# Altium integrated library Texas Instruments Interface RS-422.IntLib: 548 symbols (part 6 of 15)
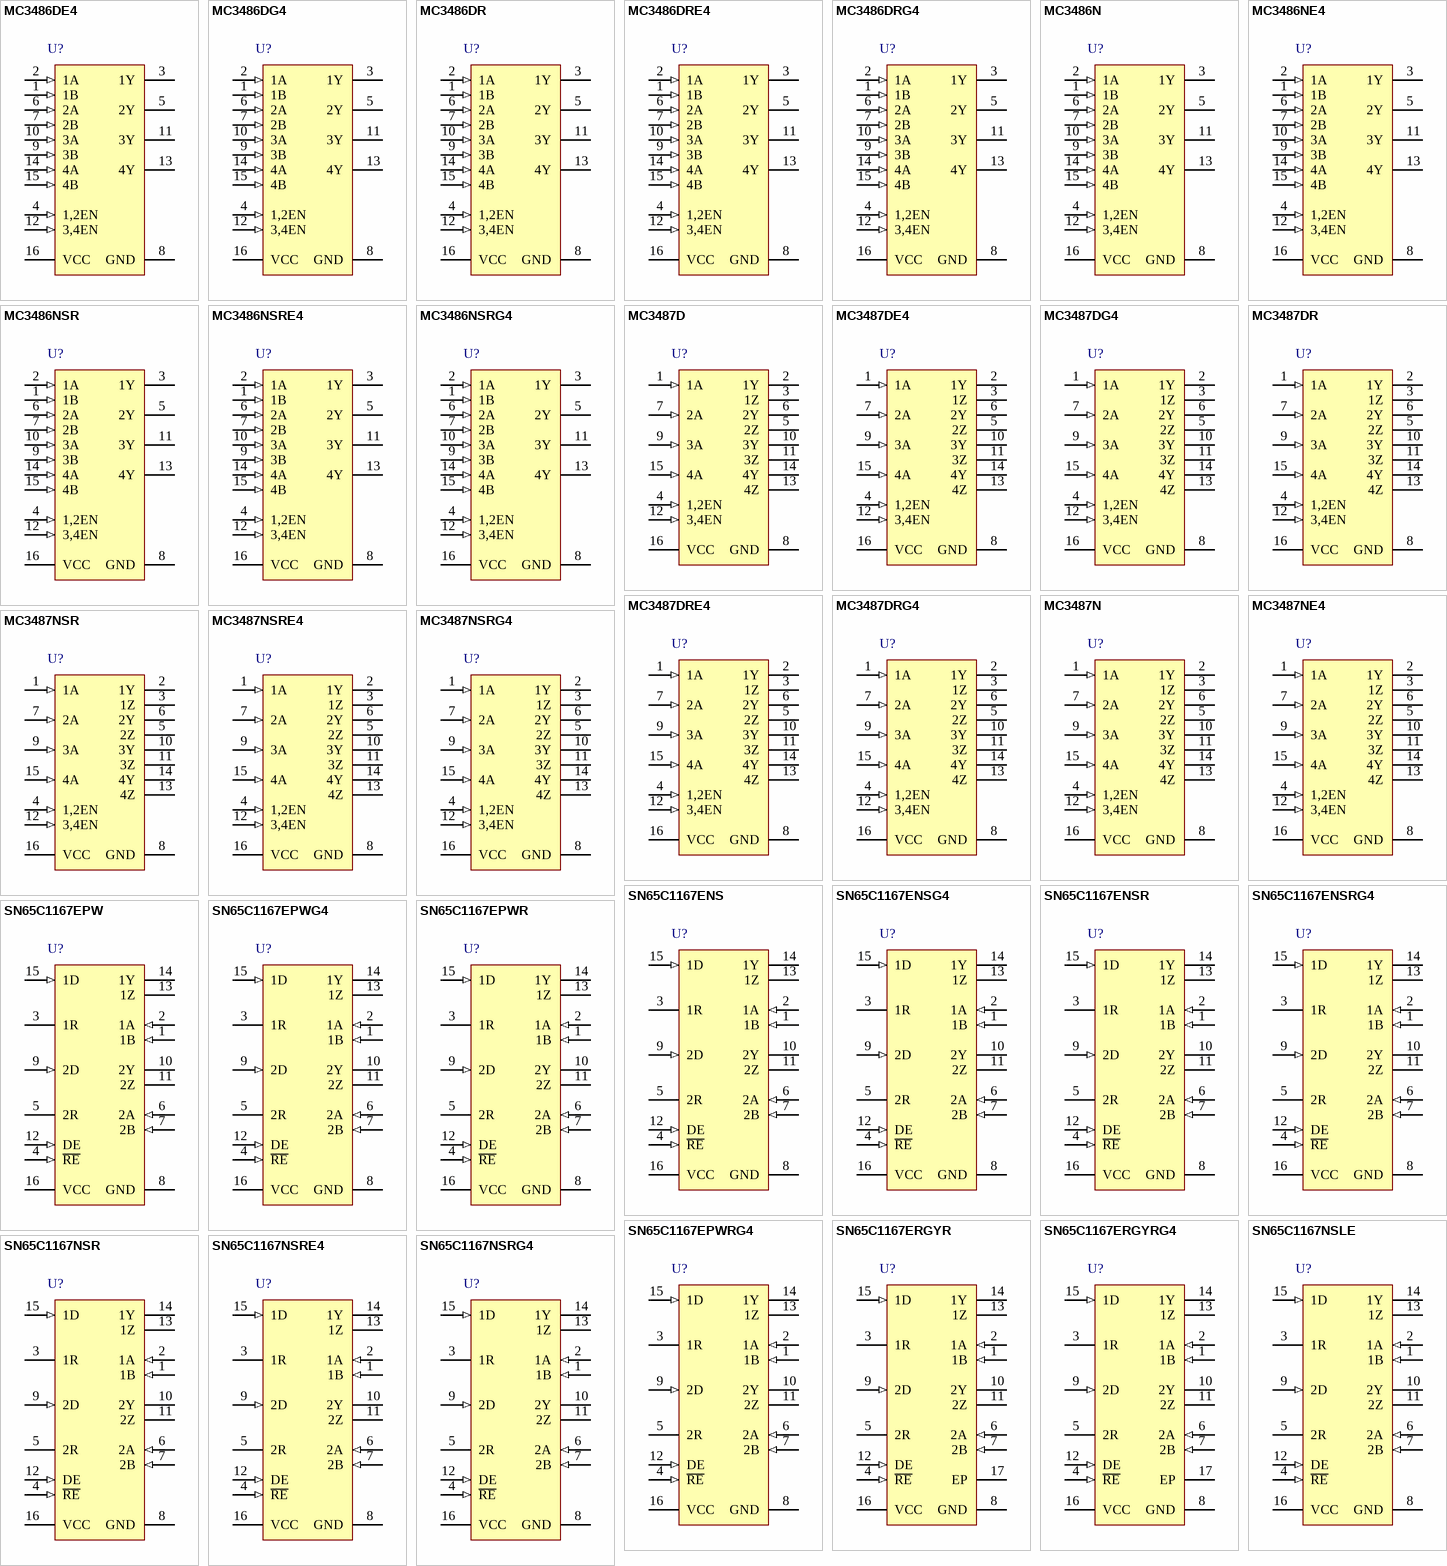
[diagram p20: symbols MC3486DE4 to SN65C1167NSRG4]

## MC3487DR
designator U?
Quadruple Differential Line Driver, 4 TX / 0 RX, 5V, 0 to 70 degC, 16-Pin SOIC (D), Green (RoHS & no Sb/Br); PartNumber: MC3487DR; Manufacturer: Texas Instruments; SubFamily: RS-422; Drivers Per Package: 4; ICC(Max)(mA): 85; Supply Voltage(s)(V): 5; ESD(kV): 2; Rating: Catalog; DatasheetVersion: SLLS098C; PackageVersion: revM, Jun-2011; PackageReference: D16; PackageDescription: 16-Pin Plastic Small Outline Integrated Circuit, 9.9 x 3.9 mm, Pitch 1.27 mm Pitch; Mounting Technology: Surface Mount; Eco-Plan: Green (RoHS & no Sb/Br); # of TX/RX: 4 TX / 0 RX; Footprint: MC3487; Code_JEDEC: MS-012AC; ComponentLink1Description: Datasheet; ComponentLink1URL: http://www.ti.com/general/docs/lit/getliterature.tsp?genericPartNumber=MC3487&fileType=pdf; ComponentLink2Description: Package Specification; ComponentLink2URL: http://www.ti.com/litv/pdf/mpds178g
footprint D16_N (SOIC, 16-Leads, Body 9.9x3.9mm, Pitch 1.27mm, IPC Medium Density)
footprint D16_L (SOIC, 16-Leads, Body 9.9x3.9mm, Pitch 1.27mm, IPC High Density)
footprint D16_M (SOIC, 16-Leads, Body 9.9x3.9mm, Pitch 1.27mm, IPC Low Density)
pins: 1 1A (in), 2 1Y (hiz), 3 1Z (hiz), 4 1,2EN (in), 5 2Z (hiz), 6 2Y (hiz), 7 2A (in), 8 GND (power), 9 3A (in), 10 3Y (hiz), 11 3Z (hiz), 12 3,4EN (in), 13 4Z (hiz), 14 4Y (hiz), 15 4A (in), 16 VCC (power)

## MC3487DRE4
designator U?
Quadruple Differential Line Driver, 4 TX / 0 RX, 5V, 0 to 70 degC, 16-Pin SOIC (D), Green (RoHS & no Sb/Br); PartNumber: MC3487DRE4; Manufacturer: Texas Instruments; SubFamily: RS-422; Drivers Per Package: 4; ICC(Max)(mA): 85; Supply Voltage(s)(V): 5; ESD(kV): 2; Rating: Catalog; DatasheetVersion: SLLS098C; PackageVersion: revM, Jun-2011; PackageReference: D16; PackageDescription: 16-Pin Plastic Small Outline Integrated Circuit, 9.9 x 3.9 mm, Pitch 1.27 mm Pitch; Mounting Technology: Surface Mount; Eco-Plan: Green (RoHS & no Sb/Br); # of TX/RX: 4 TX / 0 RX; Footprint: MC3487; Code_JEDEC: MS-012AC; ComponentLink1Description: Datasheet; ComponentLink1URL: http://www.ti.com/general/docs/lit/getliterature.tsp?genericPartNumber=MC3487&fileType=pdf; ComponentLink2Description: Package Specification; ComponentLink2URL: http://www.ti.com/litv/pdf/mpds178g
footprint D16_N (SOIC, 16-Leads, Body 9.9x3.9mm, Pitch 1.27mm, IPC Medium Density)
footprint D16_L (SOIC, 16-Leads, Body 9.9x3.9mm, Pitch 1.27mm, IPC High Density)
footprint D16_M (SOIC, 16-Leads, Body 9.9x3.9mm, Pitch 1.27mm, IPC Low Density)
pins: 1 1A (in), 2 1Y (hiz), 3 1Z (hiz), 4 1,2EN (in), 5 2Z (hiz), 6 2Y (hiz), 7 2A (in), 8 GND (power), 9 3A (in), 10 3Y (hiz), 11 3Z (hiz), 12 3,4EN (in), 13 4Z (hiz), 14 4Y (hiz), 15 4A (in), 16 VCC (power)

## MC3487DRG4
designator U?
Quadruple Differential Line Driver, 4 TX / 0 RX, 5V, 0 to 70 degC, 16-Pin SOIC (D), Green (RoHS & no Sb/Br); PartNumber: MC3487DRG4; Manufacturer: Texas Instruments; SubFamily: RS-422; Drivers Per Package: 4; ICC(Max)(mA): 85; Supply Voltage(s)(V): 5; ESD(kV): 2; Rating: Catalog; DatasheetVersion: SLLS098C; PackageVersion: revM, Jun-2011; PackageReference: D16; PackageDescription: 16-Pin Plastic Small Outline Integrated Circuit, 9.9 x 3.9 mm, Pitch 1.27 mm Pitch; Mounting Technology: Surface Mount; Eco-Plan: Green (RoHS & no Sb/Br); # of TX/RX: 4 TX / 0 RX; Footprint: MC3487; Code_JEDEC: MS-012AC; ComponentLink1Description: Datasheet; ComponentLink1URL: http://www.ti.com/general/docs/lit/getliterature.tsp?genericPartNumber=MC3487&fileType=pdf; ComponentLink2Description: Package Specification; ComponentLink2URL: http://www.ti.com/litv/pdf/mpds178g
footprint D16_N (SOIC, 16-Leads, Body 9.9x3.9mm, Pitch 1.27mm, IPC Medium Density)
footprint D16_L (SOIC, 16-Leads, Body 9.9x3.9mm, Pitch 1.27mm, IPC High Density)
footprint D16_M (SOIC, 16-Leads, Body 9.9x3.9mm, Pitch 1.27mm, IPC Low Density)
pins: 1 1A (in), 2 1Y (hiz), 3 1Z (hiz), 4 1,2EN (in), 5 2Z (hiz), 6 2Y (hiz), 7 2A (in), 8 GND (power), 9 3A (in), 10 3Y (hiz), 11 3Z (hiz), 12 3,4EN (in), 13 4Z (hiz), 14 4Y (hiz), 15 4A (in), 16 VCC (power)

## MC3487N
designator U?
Quadruple Differential Line Driver, 4 TX / 0 RX, 5V, 0 to 70 degC, 16-Pin PDIP (N), Green (RoHS & no Sb/Br); PartNumber: MC3487N; Manufacturer: Texas Instruments; SubFamily: RS-422; Drivers Per Package: 4; ICC(Max)(mA): 85; Supply Voltage(s)(V): 5; ESD(kV): 2; Rating: Catalog; DatasheetVersion: SLLS098C; PackageVersion: revE, Dec-2002; PackageReference: N16; PackageDescription: 16-Pin Plastic Dual-In-Line Package, Row Spacing 7.62 mm, Pitch 2.54 mm; Mounting Technology: Through-hole; Eco-Plan: Green (RoHS & no Sb/Br); # of TX/RX: 4 TX / 0 RX; Footprint: MC3487; Code_JEDEC: MS-001*; ComponentLink1Description: Datasheet; ComponentLink1URL: http://www.ti.com/general/docs/lit/getliterature.tsp?genericPartNumber=MC3487&fileType=pdf; ComponentLink2Description: Package Specification; ComponentLink2URL: http://www.ti.com/lit/ml/mpdi002c/mpdi002c.pdf
footprint N16 (DIP, 16-Leads, Row Spacing 7.62mm, Pitch 2.54mm, Body 19.3x6.4mm)
pins: 1 1A (in), 2 1Y (hiz), 3 1Z (hiz), 4 1,2EN (in), 5 2Z (hiz), 6 2Y (hiz), 7 2A (in), 8 GND (power), 9 3A (in), 10 3Y (hiz), 11 3Z (hiz), 12 3,4EN (in), 13 4Z (hiz), 14 4Y (hiz), 15 4A (in), 16 VCC (power)

## MC3487NE4
designator U?
Quadruple Differential Line Driver, 4 TX / 0 RX, 5V, 0 to 70 degC, 16-Pin PDIP (N), Green (RoHS & no Sb/Br); PartNumber: MC3487NE4; Manufacturer: Texas Instruments; SubFamily: RS-422; Drivers Per Package: 4; ICC(Max)(mA): 85; Supply Voltage(s)(V): 5; ESD(kV): 2; Rating: Catalog; DatasheetVersion: SLLS098C; PackageVersion: revE, Dec-2002; PackageReference: N16; PackageDescription: 16-Pin Plastic Dual-In-Line Package, Row Spacing 7.62 mm, Pitch 2.54 mm; Mounting Technology: Through-hole; Eco-Plan: Green (RoHS & no Sb/Br); # of TX/RX: 4 TX / 0 RX; Footprint: MC3487; Code_JEDEC: MS-001*; ComponentLink1Description: Datasheet; ComponentLink1URL: http://www.ti.com/general/docs/lit/getliterature.tsp?genericPartNumber=MC3487&fileType=pdf; ComponentLink2Description: Package Specification; ComponentLink2URL: http://www.ti.com/lit/ml/mpdi002c/mpdi002c.pdf
footprint N16 (DIP, 16-Leads, Row Spacing 7.62mm, Pitch 2.54mm, Body 19.3x6.4mm)
pins: 1 1A (in), 2 1Y (hiz), 3 1Z (hiz), 4 1,2EN (in), 5 2Z (hiz), 6 2Y (hiz), 7 2A (in), 8 GND (power), 9 3A (in), 10 3Y (hiz), 11 3Z (hiz), 12 3,4EN (in), 13 4Z (hiz), 14 4Y (hiz), 15 4A (in), 16 VCC (power)

## MC3487NSR
designator U?
Quadruple Differential Line Driver, 4 TX / 0 RX, 5V, 0 to 70 degC, 16-Pin SO (NS), Green (RoHS & no Sb/Br); PartNumber: MC3487NSR; Manufacturer: Texas Instruments; SubFamily: RS-422; Drivers Per Package: 4; ICC(Max)(mA): 85; Supply Voltage(s)(V): 5; ESD(kV): 2; Rating: Catalog; DatasheetVersion: SLLS098C; PackageVersion: revC, Mar-2003; PackageReference: NS16; PackageDescription: 16-Pin Plastic Small Outline Package, 10.2 x 5.3 mm, Pitch 1.27 mm Pitch; Mounting Technology: Surface Mount; Eco-Plan: Green (RoHS & no Sb/Br); # of TX/RX: 4 TX / 0 RX; Footprint: MC3487; ComponentLink1Description: Datasheet; ComponentLink1URL: http://www.ti.com/general/docs/lit/getliterature.tsp?genericPartNumber=MC3487&fileType=pdf; ComponentLink2Description: Package Specification; ComponentLink2URL: http://www.ti.com/litv/pdf/msop002a
footprint NS16_N (SOP, 16-Leads, Body 10.2x5.3mm, Pitch 1.27mm, IPC Medium Density)
footprint NS16_L (SOP, 16-Leads, Body 10.2x5.3mm, Pitch 1.27mm, IPC High Density)
footprint NS16_M (SOP, 16-Leads, Body 10.2x5.3mm, Pitch 1.27mm, IPC Low Density)
pins: 1 1A (in), 2 1Y (hiz), 3 1Z (hiz), 4 1,2EN (in), 5 2Z (hiz), 6 2Y (hiz), 7 2A (in), 8 GND (power), 9 3A (in), 10 3Y (hiz), 11 3Z (hiz), 12 3,4EN (in), 13 4Z (hiz), 14 4Y (hiz), 15 4A (in), 16 VCC (power)

## MC3487NSRE4
designator U?
Quadruple Differential Line Driver, 4 TX / 0 RX, 5V, 0 to 70 degC, 16-Pin SO (NS), Green (RoHS & no Sb/Br); PartNumber: MC3487NSRE4; Manufacturer: Texas Instruments; SubFamily: RS-422; Drivers Per Package: 4; ICC(Max)(mA): 85; Supply Voltage(s)(V): 5; ESD(kV): 2; Rating: Catalog; DatasheetVersion: SLLS098C; PackageVersion: revC, Mar-2003; PackageReference: NS16; PackageDescription: 16-Pin Plastic Small Outline Package, 10.2 x 5.3 mm, Pitch 1.27 mm Pitch; Mounting Technology: Surface Mount; Eco-Plan: Green (RoHS & no Sb/Br); # of TX/RX: 4 TX / 0 RX; Footprint: MC3487; ComponentLink1Description: Datasheet; ComponentLink1URL: http://www.ti.com/general/docs/lit/getliterature.tsp?genericPartNumber=MC3487&fileType=pdf; ComponentLink2Description: Package Specification; ComponentLink2URL: http://www.ti.com/litv/pdf/msop002a
footprint NS16_N (SOP, 16-Leads, Body 10.2x5.3mm, Pitch 1.27mm, IPC Medium Density)
footprint NS16_L (SOP, 16-Leads, Body 10.2x5.3mm, Pitch 1.27mm, IPC High Density)
footprint NS16_M (SOP, 16-Leads, Body 10.2x5.3mm, Pitch 1.27mm, IPC Low Density)
pins: 1 1A (in), 2 1Y (hiz), 3 1Z (hiz), 4 1,2EN (in), 5 2Z (hiz), 6 2Y (hiz), 7 2A (in), 8 GND (power), 9 3A (in), 10 3Y (hiz), 11 3Z (hiz), 12 3,4EN (in), 13 4Z (hiz), 14 4Y (hiz), 15 4A (in), 16 VCC (power)

## MC3487NSRG4
designator U?
Quadruple Differential Line Driver, 4 TX / 0 RX, 5V, 0 to 70 degC, 16-Pin SO (NS), Green (RoHS & no Sb/Br); PartNumber: MC3487NSRG4; Manufacturer: Texas Instruments; SubFamily: RS-422; Drivers Per Package: 4; ICC(Max)(mA): 85; Supply Voltage(s)(V): 5; ESD(kV): 2; Rating: Catalog; DatasheetVersion: SLLS098C; PackageVersion: revC, Mar-2003; PackageReference: NS16; PackageDescription: 16-Pin Plastic Small Outline Package, 10.2 x 5.3 mm, Pitch 1.27 mm Pitch; Mounting Technology: Surface Mount; Eco-Plan: Green (RoHS & no Sb/Br); # of TX/RX: 4 TX / 0 RX; Footprint: MC3487; ComponentLink1Description: Datasheet; ComponentLink1URL: http://www.ti.com/general/docs/lit/getliterature.tsp?genericPartNumber=MC3487&fileType=pdf; ComponentLink2Description: Package Specification; ComponentLink2URL: http://www.ti.com/litv/pdf/msop002a
footprint NS16_N (SOP, 16-Leads, Body 10.2x5.3mm, Pitch 1.27mm, IPC Medium Density)
footprint NS16_L (SOP, 16-Leads, Body 10.2x5.3mm, Pitch 1.27mm, IPC High Density)
footprint NS16_M (SOP, 16-Leads, Body 10.2x5.3mm, Pitch 1.27mm, IPC Low Density)
pins: 1 1A (in), 2 1Y (hiz), 3 1Z (hiz), 4 1,2EN (in), 5 2Z (hiz), 6 2Y (hiz), 7 2A (in), 8 GND (power), 9 3A (in), 10 3Y (hiz), 11 3Z (hiz), 12 3,4EN (in), 13 4Z (hiz), 14 4Y (hiz), 15 4A (in), 16 VCC (power)

## SN65C1167ENS
designator U?
Dual Differential Driver and Receiver with +/-15-kV IEC ESD Protection, 2 TX / 2 RX, 5V, -40 to 85 degC, 16-Pin SO (NS), Green (RoHS & no Sb/Br); PartNumber: SN65C1167ENS; Manufacturer: Texas Instruments; SubFamily: RS-422; Drivers Per Package: 2; ICC(Max)(mA): 9; Supply Voltage(s)(V): 5; ESD(kV): 15; Rating: Catalog; DatasheetVersion: SLLS740A; PackageVersion: revC, Mar-2003; PackageReference: NS16; PackageDescription: 16-Pin Plastic Small Outline Package, 10.2 x 5.3 mm, Pitch 1.27 mm Pitch; Mounting Technology: Surface Mount; Eco-Plan: Green (RoHS & no Sb/Br); Receivers Per Package: 2; # of TX/RX: 2 TX / 2 RX; Footprint: MC34050; ComponentLink1Description: Datasheet; ComponentLink1URL: http://www.ti.com/general/docs/lit/getliterature.tsp?genericPartNumber=SN65C1167E&fileType=pdf; ComponentLink2Description: Package Specification; ComponentLink2URL: http://www.ti.com/litv/pdf/msop002a
footprint NS16_N (SOP, 16-Leads, Body 10.2x5.3mm, Pitch 1.27mm, IPC Medium Density)
footprint NS16_L (SOP, 16-Leads, Body 10.2x5.3mm, Pitch 1.27mm, IPC High Density)
footprint NS16_M (SOP, 16-Leads, Body 10.2x5.3mm, Pitch 1.27mm, IPC Low Density)
pins: 1 1B (in), 2 1A (in), 3 1R (hiz), 4 ~{RE} (in), 5 2R (hiz), 6 2A (in), 7 2B (in), 8 GND (power), 9 2D (in), 10 2Y (hiz), 11 2Z (hiz), 12 DE (in), 13 1Z (hiz), 14 1Y (hiz), 15 1D (in), 16 VCC (power)

## SN65C1167ENSG4
designator U?
Dual Differential Driver and Receiver with +/-15-kV IEC ESD Protection, 2 TX / 2 RX, 5V, -40 to 85 degC, 16-Pin SO (NS), Green (RoHS & no Sb/Br); PartNumber: SN65C1167ENSG4; Manufacturer: Texas Instruments; SubFamily: RS-422; Drivers Per Package: 2; ICC(Max)(mA): 9; Supply Voltage(s)(V): 5; ESD(kV): 15; Rating: Catalog; DatasheetVersion: SLLS740A; PackageVersion: revC, Mar-2003; PackageReference: NS16; PackageDescription: 16-Pin Plastic Small Outline Package, 10.2 x 5.3 mm, Pitch 1.27 mm Pitch; Mounting Technology: Surface Mount; Eco-Plan: Green (RoHS & no Sb/Br); Receivers Per Package: 2; # of TX/RX: 2 TX / 2 RX; Footprint: MC34050; ComponentLink1Description: Datasheet; ComponentLink1URL: http://www.ti.com/general/docs/lit/getliterature.tsp?genericPartNumber=SN65C1167E&fileType=pdf; ComponentLink2Description: Package Specification; ComponentLink2URL: http://www.ti.com/litv/pdf/msop002a
footprint NS16_N (SOP, 16-Leads, Body 10.2x5.3mm, Pitch 1.27mm, IPC Medium Density)
footprint NS16_L (SOP, 16-Leads, Body 10.2x5.3mm, Pitch 1.27mm, IPC High Density)
footprint NS16_M (SOP, 16-Leads, Body 10.2x5.3mm, Pitch 1.27mm, IPC Low Density)
pins: 1 1B (in), 2 1A (in), 3 1R (hiz), 4 ~{RE} (in), 5 2R (hiz), 6 2A (in), 7 2B (in), 8 GND (power), 9 2D (in), 10 2Y (hiz), 11 2Z (hiz), 12 DE (in), 13 1Z (hiz), 14 1Y (hiz), 15 1D (in), 16 VCC (power)

## SN65C1167ENSR
designator U?
Dual Differential Driver and Receiver with +/-15-kV IEC ESD Protection, 2 TX / 2 RX, 5V, -40 to 85 degC, 16-Pin SO (NS), Green (RoHS & no Sb/Br); PartNumber: SN65C1167ENSR; Manufacturer: Texas Instruments; SubFamily: RS-422; Drivers Per Package: 2; ICC(Max)(mA): 9; Supply Voltage(s)(V): 5; ESD(kV): 15; Rating: Catalog; DatasheetVersion: SLLS740A; PackageVersion: revC, Mar-2003; PackageReference: NS16; PackageDescription: 16-Pin Plastic Small Outline Package, 10.2 x 5.3 mm, Pitch 1.27 mm Pitch; Mounting Technology: Surface Mount; Eco-Plan: Green (RoHS & no Sb/Br); Receivers Per Package: 2; # of TX/RX: 2 TX / 2 RX; Footprint: MC34050; ComponentLink1Description: Datasheet; ComponentLink1URL: http://www.ti.com/general/docs/lit/getliterature.tsp?genericPartNumber=SN65C1167E&fileType=pdf; ComponentLink2Description: Package Specification; ComponentLink2URL: http://www.ti.com/litv/pdf/msop002a
footprint NS16_N (SOP, 16-Leads, Body 10.2x5.3mm, Pitch 1.27mm, IPC Medium Density)
footprint NS16_L (SOP, 16-Leads, Body 10.2x5.3mm, Pitch 1.27mm, IPC High Density)
footprint NS16_M (SOP, 16-Leads, Body 10.2x5.3mm, Pitch 1.27mm, IPC Low Density)
pins: 1 1B (in), 2 1A (in), 3 1R (hiz), 4 ~{RE} (in), 5 2R (hiz), 6 2A (in), 7 2B (in), 8 GND (power), 9 2D (in), 10 2Y (hiz), 11 2Z (hiz), 12 DE (in), 13 1Z (hiz), 14 1Y (hiz), 15 1D (in), 16 VCC (power)

## SN65C1167ENSRG4
designator U?
Dual Differential Driver and Receiver with +/-15-kV IEC ESD Protection, 2 TX / 2 RX, 5V, -40 to 85 degC, 16-Pin SO (NS), Green (RoHS & no Sb/Br); PartNumber: SN65C1167ENSRG4; Manufacturer: Texas Instruments; SubFamily: RS-422; Drivers Per Package: 2; ICC(Max)(mA): 9; Supply Voltage(s)(V): 5; ESD(kV): 15; Rating: Catalog; DatasheetVersion: SLLS740A; PackageVersion: revC, Mar-2003; PackageReference: NS16; PackageDescription: 16-Pin Plastic Small Outline Package, 10.2 x 5.3 mm, Pitch 1.27 mm Pitch; Mounting Technology: Surface Mount; Eco-Plan: Green (RoHS & no Sb/Br); Receivers Per Package: 2; # of TX/RX: 2 TX / 2 RX; Footprint: MC34050; ComponentLink1Description: Datasheet; ComponentLink1URL: http://www.ti.com/general/docs/lit/getliterature.tsp?genericPartNumber=SN65C1167E&fileType=pdf; ComponentLink2Description: Package Specification; ComponentLink2URL: http://www.ti.com/litv/pdf/msop002a
footprint NS16_N (SOP, 16-Leads, Body 10.2x5.3mm, Pitch 1.27mm, IPC Medium Density)
footprint NS16_L (SOP, 16-Leads, Body 10.2x5.3mm, Pitch 1.27mm, IPC High Density)
footprint NS16_M (SOP, 16-Leads, Body 10.2x5.3mm, Pitch 1.27mm, IPC Low Density)
pins: 1 1B (in), 2 1A (in), 3 1R (hiz), 4 ~{RE} (in), 5 2R (hiz), 6 2A (in), 7 2B (in), 8 GND (power), 9 2D (in), 10 2Y (hiz), 11 2Z (hiz), 12 DE (in), 13 1Z (hiz), 14 1Y (hiz), 15 1D (in), 16 VCC (power)

## SN65C1167EPW
designator U?
Dual Differential Driver and Receiver with +/-15-kV IEC ESD Protection, 2 TX / 2 RX, 5V, -40 to 85 degC, 16-Pin TSSOP (PW), Green (RoHS & no Sb/Br); PartNumber: SN65C1167EPW; Manufacturer: Texas Instruments; SubFamily: RS-422; Drivers Per Package: 2; ICC(Max)(mA): 9; Supply Voltage(s)(V): 5; ESD(kV): 15; Rating: Catalog; DatasheetVersion: SLLS740A; PackageVersion: revG, Feb-2011; PackageReference: PW16; PackageDescription: 16-Pin Plastic Thin Small Outline Package 5 x 4.4 mm Body ,0.65 mm Pitch; Mounting Technology: Surface Mount; Eco-Plan: Green (RoHS & no Sb/Br); Receivers Per Package: 2; # of TX/RX: 2 TX / 2 RX; Footprint: MC34050; Code_JEDEC: MO-153; ComponentLink1Description: Datasheet; ComponentLink1URL: http://www.ti.com/general/docs/lit/getliterature.tsp?genericPartNumber=SN65C1167E&fileType=pdf; ComponentLink2Description: Package Specification; ComponentLink2URL: http://www.ti.com/lit/ml/mpds361/mpds361.pdf
footprint PW16_N (TSOP, 16-Leads, Body 5x4.4mm, Pitch 0.65mm, IPC Medium Density)
footprint PW16_L (TSOP, 16-Leads, Body 5x4.4mm, Pitch 0.65mm, IPC High Density)
footprint PW16_M (TSOP, 16-Leads, Body 5x4.4mm, Pitch 0.65mm, IPC Low Density)
pins: 1 1B (in), 2 1A (in), 3 1R (hiz), 4 ~{RE} (in), 5 2R (hiz), 6 2A (in), 7 2B (in), 8 GND (power), 9 2D (in), 10 2Y (hiz), 11 2Z (hiz), 12 DE (in), 13 1Z (hiz), 14 1Y (hiz), 15 1D (in), 16 VCC (power)

## SN65C1167EPWG4
designator U?
Dual Differential Driver and Receiver with +/-15-kV IEC ESD Protection, 2 TX / 2 RX, 5V, -40 to 85 degC, 16-Pin TSSOP (PW), Green (RoHS & no Sb/Br); PartNumber: SN65C1167EPWG4; Manufacturer: Texas Instruments; SubFamily: RS-422; Drivers Per Package: 2; ICC(Max)(mA): 9; Supply Voltage(s)(V): 5; ESD(kV): 15; Rating: Catalog; DatasheetVersion: SLLS740A; PackageVersion: revG, Feb-2011; PackageReference: PW16; PackageDescription: 16-Pin Plastic Thin Small Outline Package 5 x 4.4 mm Body ,0.65 mm Pitch; Mounting Technology: Surface Mount; Eco-Plan: Green (RoHS & no Sb/Br); Receivers Per Package: 2; # of TX/RX: 2 TX / 2 RX; Footprint: MC34050; Code_JEDEC: MO-153; ComponentLink1Description: Datasheet; ComponentLink1URL: http://www.ti.com/general/docs/lit/getliterature.tsp?genericPartNumber=SN65C1167E&fileType=pdf; ComponentLink2Description: Package Specification; ComponentLink2URL: http://www.ti.com/lit/ml/mpds361/mpds361.pdf
footprint PW16_N (TSOP, 16-Leads, Body 5x4.4mm, Pitch 0.65mm, IPC Medium Density)
footprint PW16_L (TSOP, 16-Leads, Body 5x4.4mm, Pitch 0.65mm, IPC High Density)
footprint PW16_M (TSOP, 16-Leads, Body 5x4.4mm, Pitch 0.65mm, IPC Low Density)
pins: 1 1B (in), 2 1A (in), 3 1R (hiz), 4 ~{RE} (in), 5 2R (hiz), 6 2A (in), 7 2B (in), 8 GND (power), 9 2D (in), 10 2Y (hiz), 11 2Z (hiz), 12 DE (in), 13 1Z (hiz), 14 1Y (hiz), 15 1D (in), 16 VCC (power)

## SN65C1167EPWR
designator U?
Dual Differential Driver and Receiver with +/-15-kV IEC ESD Protection, 2 TX / 2 RX, 5V, -40 to 85 degC, 16-Pin TSSOP(PW), Green (RoHS & no Sb/Br); PartNumber: SN65C1167EPWR; Manufacturer: Texas Instruments; SubFamily: RS-422; Drivers Per Package: 2; ICC(Max)(mA): 9; Supply Voltage(s)(V): 5; ESD(kV): 15; Rating: Catalog; DatasheetVersion: SLLS740A; PackageVersion: revG, Feb-2011; PackageReference: PW16; PackageDescription: 16-Pin Plastic Thin Small Outline Package 5 x 4.4 mm Body ,0.65 mm Pitch; Mounting Technology: Surface Mount; Eco-Plan: Green (RoHS & no Sb/Br); Receivers Per Package: 2; # of TX/RX: 2 TX / 2 RX; Footprint: MC34050; Code_JEDEC: MO-153; ComponentLink1Description: Datasheet; ComponentLink1URL: http://www.ti.com/general/docs/lit/getliterature.tsp?genericPartNumber=SN65C1167E&fileType=pdf; ComponentLink2Description: Package Specification; ComponentLink2URL: http://www.ti.com/lit/ml/mpds361/mpds361.pdf
footprint PW16_N (TSOP, 16-Leads, Body 5x4.4mm, Pitch 0.65mm, IPC Medium Density)
footprint PW16_L (TSOP, 16-Leads, Body 5x4.4mm, Pitch 0.65mm, IPC High Density)
footprint PW16_M (TSOP, 16-Leads, Body 5x4.4mm, Pitch 0.65mm, IPC Low Density)
pins: 1 1B (in), 2 1A (in), 3 1R (hiz), 4 ~{RE} (in), 5 2R (hiz), 6 2A (in), 7 2B (in), 8 GND (power), 9 2D (in), 10 2Y (hiz), 11 2Z (hiz), 12 DE (in), 13 1Z (hiz), 14 1Y (hiz), 15 1D (in), 16 VCC (power)

## SN65C1167EPWRG4
designator U?
Dual Differential Driver and Receiver with +/-15-kV IEC ESD Protection, 2 TX / 2 RX, 5V, -40 to 85 degC, 16-Pin TSSOP(PW), Green (RoHS & no Sb/Br); PartNumber: SN65C1167EPWRG4; Manufacturer: Texas Instruments; SubFamily: RS-422; Drivers Per Package: 2; ICC(Max)(mA): 9; Supply Voltage(s)(V): 5; ESD(kV): 15; Rating: Catalog; DatasheetVersion: SLLS740A; PackageVersion: revG, Feb-2011; PackageReference: PW16; PackageDescription: 16-Pin Plastic Thin Small Outline Package 5 x 4.4 mm Body ,0.65 mm Pitch; Mounting Technology: Surface Mount; Eco-Plan: Green (RoHS & no Sb/Br); Receivers Per Package: 2; # of TX/RX: 2 TX / 2 RX; Footprint: MC34050; Code_JEDEC: MO-153; ComponentLink1Description: Datasheet; ComponentLink1URL: http://www.ti.com/general/docs/lit/getliterature.tsp?genericPartNumber=SN65C1167E&fileType=pdf; ComponentLink2Description: Package Specification; ComponentLink2URL: http://www.ti.com/lit/ml/mpds361/mpds361.pdf
footprint PW16_N (TSOP, 16-Leads, Body 5x4.4mm, Pitch 0.65mm, IPC Medium Density)
footprint PW16_L (TSOP, 16-Leads, Body 5x4.4mm, Pitch 0.65mm, IPC High Density)
footprint PW16_M (TSOP, 16-Leads, Body 5x4.4mm, Pitch 0.65mm, IPC Low Density)
pins: 1 1B (in), 2 1A (in), 3 1R (hiz), 4 ~{RE} (in), 5 2R (hiz), 6 2A (in), 7 2B (in), 8 GND (power), 9 2D (in), 10 2Y (hiz), 11 2Z (hiz), 12 DE (in), 13 1Z (hiz), 14 1Y (hiz), 15 1D (in), 16 VCC (power)

## SN65C1167ERGYR
designator U?
Dual Differential Driver and Receiver with +/-15-kV IEC ESD Protection, 2 TX / 2 RX, 5V, -40 to 85 degC, 16-Pin VQFN(RGY), Green (RoHS & no Sb/Br); PartNumber: SN65C1167ERGYR; Manufacturer: Texas Instruments; SubFamily: RS-422; Drivers Per Package: 2; ICC(Max)(mA): 9; Supply Voltage(s)(V): 5; ESD(kV): 15; Rating: Catalog; DatasheetVersion: SLLS740A; PackageVersion: revI, Jun-2011; PackageReference: RGY16-2550X2050TP; PackageDescription: 16-Leads Plastic Quad Flatpack No-Lead, 3.5 x 4 x 0.9 mm Body, 0.5 mm Pitch; Mounting Technology: Surface Mount; Eco-Plan: Green (RoHS & no Sb/Br); Receivers Per Package: 2; # of TX/RX: 2 TX / 2 RX; Footprint: MC34050; Code_JEDEC: MO-241-BA; ComponentLink1Description: Datasheet; ComponentLink1URL: http://www.ti.com/general/docs/lit/getliterature.tsp?genericPartNumber=SN65C1167E&fileType=pdf; ComponentLink2Description: Package Specification; ComponentLink2URL: http://www.ti.com/litv/pdf/mpqf115g
footprint RGY16-2550X2050TP (QFN, 16-Leads, Body 4x3.5mm, Pitch 0.5mm, Thermal Pad 2.55x2.05mm, TI Recommended)
pins: 1 1B (in), 2 1A (in), 3 1R (hiz), 4 ~{RE} (in), 5 2R (hiz), 6 2A (in), 7 2B (in), 8 GND (power), 9 2D (in), 10 2Y (hiz), 11 2Z (hiz), 12 DE (in), 13 1Z (hiz), 14 1Y (hiz), 15 1D (in), 16 VCC (power), 17 EP "Exposed Thermal Pad"

## SN65C1167ERGYRG4
designator U?
Dual Differential Driver and Receiver with +/-15 kV IEC ESD Protection, 2 TX / 2 RX, 5V, -40 to 85 degC, 16-Pin VQFN (RGY), Green (RoHS & no Sb/Br); PartNumber: SN65C1167ERGYRG4; Manufacturer: Texas Instruments; SubFamily: RS-422; Drivers Per Package: 2; ICC(Max)(mA): 9; Supply Voltage(s)(V): 5; ESD(kV): 15; Rating: Catalog; DatasheetVersion: SLLS740A; PackageVersion: revI, Jun-2011; PackageReference: RGY16-2550X2050TP; PackageDescription: 16-Leads Plastic Quad Flatpack No-Lead, 3.5 x 4 x 0.9 mm Body, 0.5 mm Pitch; Mounting Technology: Surface Mount; Eco-Plan: Green (RoHS & no Sb/Br); Receivers Per Package: 2; # of TX/RX: 2 TX / 2 RX; Footprint: MC34050; Code_JEDEC: MO-241-BA; ComponentLink1Description: Datasheet; ComponentLink1URL: http://www.ti.com/general/docs/lit/getliterature.tsp?genericPartNumber=SN65C1167E&fileType=pdf; ComponentLink2Description: Package Specification; ComponentLink2URL: http://www.ti.com/litv/pdf/mpqf115g
footprint RGY16-2550X2050TP (QFN, 16-Leads, Body 4x3.5mm, Pitch 0.5mm, Thermal Pad 2.55x2.05mm, TI Recommended)
pins: 1 1B (in), 2 1A (in), 3 1R (hiz), 4 ~{RE} (in), 5 2R (hiz), 6 2A (in), 7 2B (in), 8 GND (power), 9 2D (in), 10 2Y (hiz), 11 2Z (hiz), 12 DE (in), 13 1Z (hiz), 14 1Y (hiz), 15 1D (in), 16 VCC (power), 17 EP "Exposed Thermal Pad"

## SN65C1167NSLE
designator U?
Dual Differential Driver and Receiver, 2 TX / 2 RX, 16-Pin SO (NS); PartNumber: SN65C1167NSLE; Manufacturer: Texas Instruments; Eco-Plan: Not Available; SubFamily: RS-422; Drivers Per Package: 2; ICC(Max)(mA): 9; Rating: Catalog; DatasheetVersion: SLLS159F; PackageVersion: revC, Mar-2003; PackageReference: NS16; PackageDescription: 16-Pin Plastic Small Outline Package, 10.2 x 5.3 mm, Pitch 1.27 mm Pitch; Mounting Technology: Surface Mount; Receivers Per Package: 2; # of TX/RX: 2 TX / 2 RX; ESD(kV): 2; Footprint: MC34050; ComponentLink1Description: Datasheet; ComponentLink1URL: http://www.ti.com/general/docs/lit/getliterature.tsp?genericPartNumber=SN65C1167&fileType=pdf; ComponentLink2Description: Package Specification; ComponentLink2URL: http://www.ti.com/litv/pdf/msop002a
footprint NS16_N (SOP, 16-Leads, Body 10.2x5.3mm, Pitch 1.27mm, IPC Medium Density)
footprint NS16_L (SOP, 16-Leads, Body 10.2x5.3mm, Pitch 1.27mm, IPC High Density)
footprint NS16_M (SOP, 16-Leads, Body 10.2x5.3mm, Pitch 1.27mm, IPC Low Density)
pins: 1 1B (in), 2 1A (in), 3 1R (hiz), 4 ~{RE} (in), 5 2R (hiz), 6 2A (in), 7 2B (in), 8 GND (power), 9 2D (in), 10 2Y (hiz), 11 2Z (hiz), 12 DE (in), 13 1Z (hiz), 14 1Y (hiz), 15 1D (in), 16 VCC (power)

## SN65C1167NSR
designator U?
Dual Differential Driver and Receiver, 2 TX / 2 RX, -40 to 85 degC, 16-Pin SO (NS), Green (RoHS & no Sb/Br); PartNumber: SN65C1167NSR; Manufacturer: Texas Instruments; Eco-Plan: Not Available; SubFamily: RS-422; Drivers Per Package: 2; ICC(Max)(mA): 9; Rating: Catalog; DatasheetVersion: SLLS159F; PackageVersion: revC, Mar-2003; PackageReference: NS16; PackageDescription: 16-Pin Plastic Small Outline Package, 10.2 x 5.3 mm, Pitch 1.27 mm Pitch; Mounting Technology: Surface Mount; Receivers Per Package: 2; # of TX/RX: 2 TX / 2 RX; ESD(kV): 2; Footprint: MC34050; ComponentLink1Description: Datasheet; ComponentLink1URL: http://www.ti.com/general/docs/lit/getliterature.tsp?genericPartNumber=SN65C1167&fileType=pdf; ComponentLink2Description: Package Specification; ComponentLink2URL: http://www.ti.com/litv/pdf/msop002a
footprint NS16_N (SOP, 16-Leads, Body 10.2x5.3mm, Pitch 1.27mm, IPC Medium Density)
footprint NS16_L (SOP, 16-Leads, Body 10.2x5.3mm, Pitch 1.27mm, IPC High Density)
footprint NS16_M (SOP, 16-Leads, Body 10.2x5.3mm, Pitch 1.27mm, IPC Low Density)
pins: 1 1B (in), 2 1A (in), 3 1R (hiz), 4 ~{RE} (in), 5 2R (hiz), 6 2A (in), 7 2B (in), 8 GND (power), 9 2D (in), 10 2Y (hiz), 11 2Z (hiz), 12 DE (in), 13 1Z (hiz), 14 1Y (hiz), 15 1D (in), 16 VCC (power)

## SN65C1167NSRE4
designator U?
Dual Differential Driver and Receiver, 2 TX / 2 RX, 16-Pin SO (NS), Green (RoHS & no Sb/Br); PartNumber: SN65C1167NSRE4; Manufacturer: Texas Instruments; Eco-Plan: Not Available; SubFamily: RS-422; Drivers Per Package: 2; ICC(Max)(mA): 9; Rating: Catalog; DatasheetVersion: SLLS159F; PackageVersion: revC, Mar-2003; PackageReference: NS16; PackageDescription: 16-Pin Plastic Small Outline Package, 10.2 x 5.3 mm, Pitch 1.27 mm Pitch; Mounting Technology: Surface Mount; Receivers Per Package: 2; # of TX/RX: 2 TX / 2 RX; ESD(kV): 2; Footprint: MC34050; ComponentLink1Description: Datasheet; ComponentLink1URL: http://www.ti.com/general/docs/lit/getliterature.tsp?genericPartNumber=SN65C1167&fileType=pdf; ComponentLink2Description: Package Specification; ComponentLink2URL: http://www.ti.com/litv/pdf/msop002a
footprint NS16_N (SOP, 16-Leads, Body 10.2x5.3mm, Pitch 1.27mm, IPC Medium Density)
footprint NS16_L (SOP, 16-Leads, Body 10.2x5.3mm, Pitch 1.27mm, IPC High Density)
footprint NS16_M (SOP, 16-Leads, Body 10.2x5.3mm, Pitch 1.27mm, IPC Low Density)
pins: 1 1B (in), 2 1A (in), 3 1R (hiz), 4 ~{RE} (in), 5 2R (hiz), 6 2A (in), 7 2B (in), 8 GND (power), 9 2D (in), 10 2Y (hiz), 11 2Z (hiz), 12 DE (in), 13 1Z (hiz), 14 1Y (hiz), 15 1D (in), 16 VCC (power)

## SN65C1167NSRG4
designator U?
Dual Differential Driver and Receiver, 2 TX / 2 RX, 16-Pin SO (NS), Green (RoHS & no Sb/Br); PartNumber: SN65C1167NSRG4; Manufacturer: Texas Instruments; Eco-Plan: Not Available; SubFamily: RS-422; Drivers Per Package: 2; ICC(Max)(mA): 9; Rating: Catalog; DatasheetVersion: SLLS159F; PackageVersion: revC, Mar-2003; PackageReference: NS16; PackageDescription: 16-Pin Plastic Small Outline Package, 10.2 x 5.3 mm, Pitch 1.27 mm Pitch; Mounting Technology: Surface Mount; Receivers Per Package: 2; # of TX/RX: 2 TX / 2 RX; ESD(kV): 2; Footprint: MC34050; ComponentLink1Description: Datasheet; ComponentLink1URL: http://www.ti.com/general/docs/lit/getliterature.tsp?genericPartNumber=SN65C1167&fileType=pdf; ComponentLink2Description: Package Specification; ComponentLink2URL: http://www.ti.com/litv/pdf/msop002a
footprint NS16_N (SOP, 16-Leads, Body 10.2x5.3mm, Pitch 1.27mm, IPC Medium Density)
footprint NS16_L (SOP, 16-Leads, Body 10.2x5.3mm, Pitch 1.27mm, IPC High Density)
footprint NS16_M (SOP, 16-Leads, Body 10.2x5.3mm, Pitch 1.27mm, IPC Low Density)
pins: 1 1B (in), 2 1A (in), 3 1R (hiz), 4 ~{RE} (in), 5 2R (hiz), 6 2A (in), 7 2B (in), 8 GND (power), 9 2D (in), 10 2Y (hiz), 11 2Z (hiz), 12 DE (in), 13 1Z (hiz), 14 1Y (hiz), 15 1D (in), 16 VCC (power)

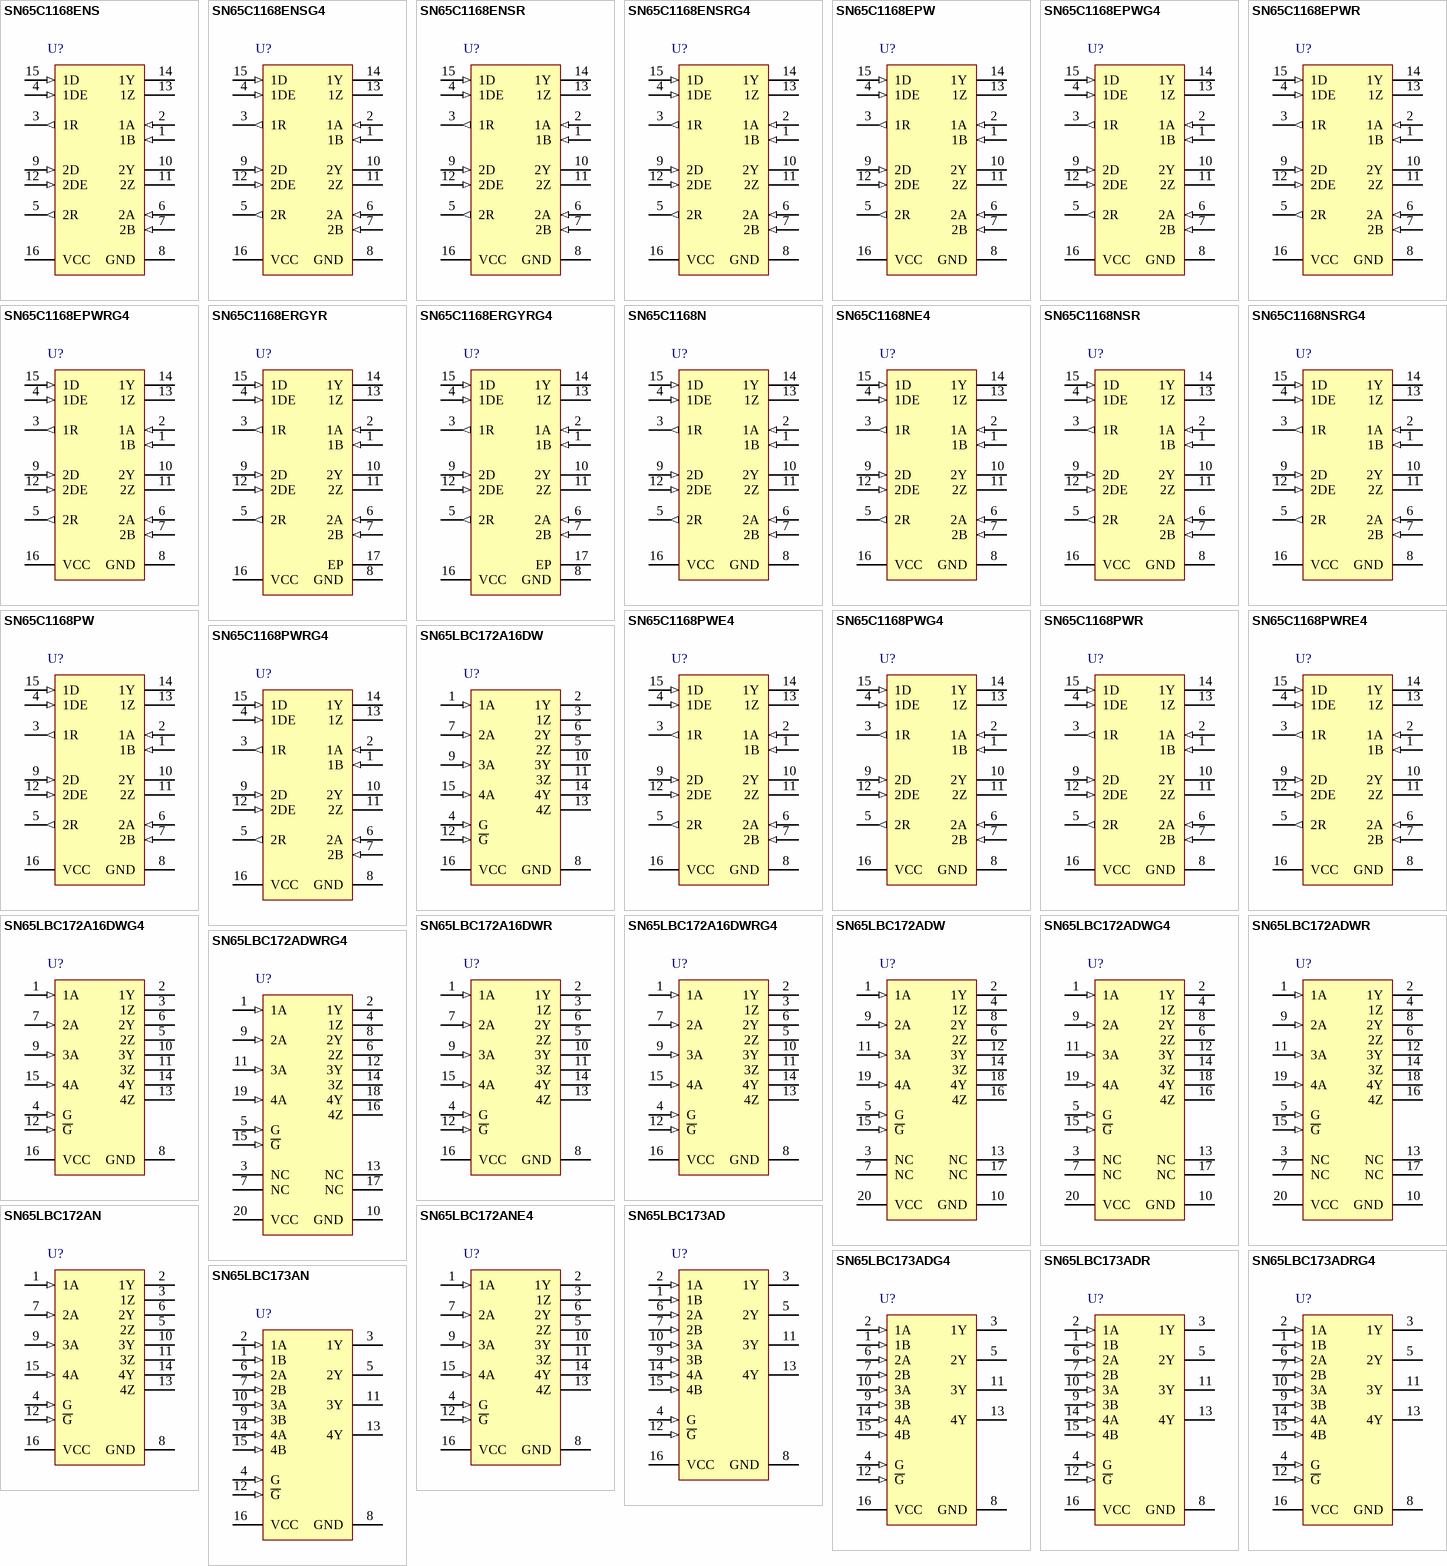
[diagram p6: symbols SN65C1168ENS to SN65LBC173AN]

## SN65C1168ENS
designator U?
Dual Differential Driver and Receiver with +/-15-kV IEC ESD Protection, 2 TX / 2 RX, 5V, -40 to 85 degC, 16-Pin SO (NS), Green (RoHS & no Sb/Br); PartNumber: SN65C1168ENS; Manufacturer: Texas Instruments; SubFamily: RS-422; Drivers Per Package: 2; ICC(Max)(mA): 9; Supply Voltage(s)(V): 5; ESD(kV): 15; Rating: Catalog; DatasheetVersion: SLLS740A; PackageVersion: revC, Mar-2003; PackageReference: NS16; PackageDescription: 16-Pin Plastic Small Outline Package, 10.2 x 5.3 mm, Pitch 1.27 mm Pitch; Mounting Technology: Surface Mount; Eco-Plan: Green (RoHS & no Sb/Br); Receivers Per Package: 2; # of TX/RX: 2 TX / 2 RX; Footprint: MC34051; ComponentLink1Description: Datasheet; ComponentLink1URL: http://www.ti.com/general/docs/lit/getliterature.tsp?genericPartNumber=SN65C1168E&fileType=pdf; ComponentLink2Description: Package Specification; ComponentLink2URL: http://www.ti.com/litv/pdf/msop002a
footprint NS16_N (SOP, 16-Leads, Body 10.2x5.3mm, Pitch 1.27mm, IPC Medium Density)
footprint NS16_L (SOP, 16-Leads, Body 10.2x5.3mm, Pitch 1.27mm, IPC High Density)
footprint NS16_M (SOP, 16-Leads, Body 10.2x5.3mm, Pitch 1.27mm, IPC Low Density)
pins: 1 1B (in), 2 1A (in), 3 1R (out), 4 1DE (in), 5 2R (out), 6 2A (in), 7 2B (in), 8 GND (power), 9 2D (in), 10 2Y (hiz), 11 2Z (hiz), 12 2DE (in), 13 1Z (hiz), 14 1Y (hiz), 15 1D (in), 16 VCC (power)

## SN65C1168ENSG4
designator U?
Dual Differential Driver and Receiver with +/-15-kV IEC ESD Protection, 2 TX / 2 RX, 5V, -40 to 85 degC, 16-Pin SO (NS), Green (RoHS & no Sb/Br); PartNumber: SN65C1168ENSG4; Manufacturer: Texas Instruments; SubFamily: RS-422; Drivers Per Package: 2; ICC(Max)(mA): 9; Supply Voltage(s)(V): 5; ESD(kV): 15; Rating: Catalog; DatasheetVersion: SLLS740A; PackageVersion: revC, Mar-2003; PackageReference: NS16; PackageDescription: 16-Pin Plastic Small Outline Package, 10.2 x 5.3 mm, Pitch 1.27 mm Pitch; Mounting Technology: Surface Mount; Eco-Plan: Green (RoHS & no Sb/Br); Receivers Per Package: 2; # of TX/RX: 2 TX / 2 RX; Footprint: MC34051; ComponentLink1Description: Datasheet; ComponentLink1URL: http://www.ti.com/general/docs/lit/getliterature.tsp?genericPartNumber=SN65C1168E&fileType=pdf; ComponentLink2Description: Package Specification; ComponentLink2URL: http://www.ti.com/litv/pdf/msop002a
footprint NS16_N (SOP, 16-Leads, Body 10.2x5.3mm, Pitch 1.27mm, IPC Medium Density)
footprint NS16_L (SOP, 16-Leads, Body 10.2x5.3mm, Pitch 1.27mm, IPC High Density)
footprint NS16_M (SOP, 16-Leads, Body 10.2x5.3mm, Pitch 1.27mm, IPC Low Density)
pins: 1 1B (in), 2 1A (in), 3 1R (out), 4 1DE (in), 5 2R (out), 6 2A (in), 7 2B (in), 8 GND (power), 9 2D (in), 10 2Y (hiz), 11 2Z (hiz), 12 2DE (in), 13 1Z (hiz), 14 1Y (hiz), 15 1D (in), 16 VCC (power)

## SN65C1168ENSR
designator U?
Dual Differential Driver and Receiver with +/-15-kV IEC ESD Protection, 2 TX / 2 RX, 5V, -40 to 85 degC, 16-Pin SO (NS), Green (RoHS & no Sb/Br); PartNumber: SN65C1168ENSR; Manufacturer: Texas Instruments; SubFamily: RS-422; Drivers Per Package: 2; ICC(Max)(mA): 9; Supply Voltage(s)(V): 5; ESD(kV): 15; Rating: Catalog; DatasheetVersion: SLLS740A; PackageVersion: revC, Mar-2003; PackageReference: NS16; PackageDescription: 16-Pin Plastic Small Outline Package, 10.2 x 5.3 mm, Pitch 1.27 mm Pitch; Mounting Technology: Surface Mount; Eco-Plan: Green (RoHS & no Sb/Br); Receivers Per Package: 2; # of TX/RX: 2 TX / 2 RX; Footprint: MC34051; ComponentLink1Description: Datasheet; ComponentLink1URL: http://www.ti.com/general/docs/lit/getliterature.tsp?genericPartNumber=SN65C1168E&fileType=pdf; ComponentLink2Description: Package Specification; ComponentLink2URL: http://www.ti.com/litv/pdf/msop002a
footprint NS16_N (SOP, 16-Leads, Body 10.2x5.3mm, Pitch 1.27mm, IPC Medium Density)
footprint NS16_L (SOP, 16-Leads, Body 10.2x5.3mm, Pitch 1.27mm, IPC High Density)
footprint NS16_M (SOP, 16-Leads, Body 10.2x5.3mm, Pitch 1.27mm, IPC Low Density)
pins: 1 1B (in), 2 1A (in), 3 1R (out), 4 1DE (in), 5 2R (out), 6 2A (in), 7 2B (in), 8 GND (power), 9 2D (in), 10 2Y (hiz), 11 2Z (hiz), 12 2DE (in), 13 1Z (hiz), 14 1Y (hiz), 15 1D (in), 16 VCC (power)

## SN65C1168ENSRG4
designator U?
Dual Differential Driver and Receiver with +/-15-kV IEC ESD Protection, 2 TX / 2 RX, 5V, -40 to 85 degC, 16-Pin SO (NS), Green (RoHS & no Sb/Br); PartNumber: SN65C1168ENSRG4; Manufacturer: Texas Instruments; SubFamily: RS-422; Drivers Per Package: 2; ICC(Max)(mA): 9; Supply Voltage(s)(V): 5; ESD(kV): 15; Rating: Catalog; DatasheetVersion: SLLS740A; PackageVersion: revC, Mar-2003; PackageReference: NS16; PackageDescription: 16-Pin Plastic Small Outline Package, 10.2 x 5.3 mm, Pitch 1.27 mm Pitch; Mounting Technology: Surface Mount; Eco-Plan: Green (RoHS & no Sb/Br); Receivers Per Package: 2; # of TX/RX: 2 TX / 2 RX; Footprint: MC34051; ComponentLink1Description: Datasheet; ComponentLink1URL: http://www.ti.com/general/docs/lit/getliterature.tsp?genericPartNumber=SN65C1168E&fileType=pdf; ComponentLink2Description: Package Specification; ComponentLink2URL: http://www.ti.com/litv/pdf/msop002a
footprint NS16_N (SOP, 16-Leads, Body 10.2x5.3mm, Pitch 1.27mm, IPC Medium Density)
footprint NS16_L (SOP, 16-Leads, Body 10.2x5.3mm, Pitch 1.27mm, IPC High Density)
footprint NS16_M (SOP, 16-Leads, Body 10.2x5.3mm, Pitch 1.27mm, IPC Low Density)
pins: 1 1B (in), 2 1A (in), 3 1R (out), 4 1DE (in), 5 2R (out), 6 2A (in), 7 2B (in), 8 GND (power), 9 2D (in), 10 2Y (hiz), 11 2Z (hiz), 12 2DE (in), 13 1Z (hiz), 14 1Y (hiz), 15 1D (in), 16 VCC (power)

## SN65C1168EPW
designator U?
Dual Differential Driver and Receiver with +/-15-kV IEC ESD Protection, 2 TX / 2 RX, 5V, -40 to 85 degC, 16-Pin TSSOP (PW), Green (RoHS & no Sb/Br); PartNumber: SN65C1168EPW; Manufacturer: Texas Instruments; SubFamily: RS-422; Drivers Per Package: 2; ICC(Max)(mA): 9; Supply Voltage(s)(V): 5; ESD(kV): 15; Rating: Catalog; DatasheetVersion: SLLS740A; PackageVersion: revG, Feb-2011; PackageReference: PW16; PackageDescription: 16-Pin Plastic Thin Small Outline Package 5 x 4.4 mm Body ,0.65 mm Pitch; Mounting Technology: Surface Mount; Eco-Plan: Green (RoHS & no Sb/Br); Receivers Per Package: 2; # of TX/RX: 2 TX / 2 RX; Footprint: MC34051; Code_JEDEC: MO-153; ComponentLink1Description: Datasheet; ComponentLink1URL: http://www.ti.com/general/docs/lit/getliterature.tsp?genericPartNumber=SN65C1168E&fileType=pdf; ComponentLink2Description: Package Specification; ComponentLink2URL: http://www.ti.com/lit/ml/mpds361/mpds361.pdf
footprint PW16_N (TSOP, 16-Leads, Body 5x4.4mm, Pitch 0.65mm, IPC Medium Density)
footprint PW16_L (TSOP, 16-Leads, Body 5x4.4mm, Pitch 0.65mm, IPC High Density)
footprint PW16_M (TSOP, 16-Leads, Body 5x4.4mm, Pitch 0.65mm, IPC Low Density)
pins: 1 1B (in), 2 1A (in), 3 1R (out), 4 1DE (in), 5 2R (out), 6 2A (in), 7 2B (in), 8 GND (power), 9 2D (in), 10 2Y (hiz), 11 2Z (hiz), 12 2DE (in), 13 1Z (hiz), 14 1Y (hiz), 15 1D (in), 16 VCC (power)

## SN65C1168EPWG4
designator U?
Dual Differential Driver and Receiver with +/-15-kV IEC ESD Protection, 2 TX / 2 RX, 5V, -40 to 85 degC, 16-Pin TSSOP (PW), Green (RoHS & no Sb/Br); PartNumber: SN65C1168EPWG4; Manufacturer: Texas Instruments; SubFamily: RS-422; Drivers Per Package: 2; ICC(Max)(mA): 9; Supply Voltage(s)(V): 5; ESD(kV): 15; Rating: Catalog; DatasheetVersion: SLLS740A; PackageVersion: revG, Feb-2011; PackageReference: PW16; PackageDescription: 16-Pin Plastic Thin Small Outline Package 5 x 4.4 mm Body ,0.65 mm Pitch; Mounting Technology: Surface Mount; Eco-Plan: Green (RoHS & no Sb/Br); Receivers Per Package: 2; # of TX/RX: 2 TX / 2 RX; Footprint: MC34051; Code_JEDEC: MO-153; ComponentLink1Description: Datasheet; ComponentLink1URL: http://www.ti.com/general/docs/lit/getliterature.tsp?genericPartNumber=SN65C1168E&fileType=pdf; ComponentLink2Description: Package Specification; ComponentLink2URL: http://www.ti.com/lit/ml/mpds361/mpds361.pdf
footprint PW16_N (TSOP, 16-Leads, Body 5x4.4mm, Pitch 0.65mm, IPC Medium Density)
footprint PW16_L (TSOP, 16-Leads, Body 5x4.4mm, Pitch 0.65mm, IPC High Density)
footprint PW16_M (TSOP, 16-Leads, Body 5x4.4mm, Pitch 0.65mm, IPC Low Density)
pins: 1 1B (in), 2 1A (in), 3 1R (out), 4 1DE (in), 5 2R (out), 6 2A (in), 7 2B (in), 8 GND (power), 9 2D (in), 10 2Y (hiz), 11 2Z (hiz), 12 2DE (in), 13 1Z (hiz), 14 1Y (hiz), 15 1D (in), 16 VCC (power)

## SN65C1168EPWR
designator U?
Dual Differential Driver and Receiver with +/-15-kV IEC ESD Protection, 2 TX / 2 RX, 5V, -40 to 85 degC, 16-Pin TSSOP (PW), Green (RoHS & no Sb/Br); PartNumber: SN65C1168EPWR; Manufacturer: Texas Instruments; SubFamily: RS-422; Drivers Per Package: 2; ICC(Max)(mA): 9; Supply Voltage(s)(V): 5; ESD(kV): 15; Rating: Catalog; DatasheetVersion: SLLS740A; PackageVersion: revG, Feb-2011; PackageReference: PW16; PackageDescription: 16-Pin Plastic Thin Small Outline Package 5 x 4.4 mm Body ,0.65 mm Pitch; Mounting Technology: Surface Mount; Eco-Plan: Green (RoHS & no Sb/Br); Receivers Per Package: 2; # of TX/RX: 2 TX / 2 RX; Footprint: MC34051; Code_JEDEC: MO-153; ComponentLink1Description: Datasheet; ComponentLink1URL: http://www.ti.com/general/docs/lit/getliterature.tsp?genericPartNumber=SN65C1168E&fileType=pdf; ComponentLink2Description: Package Specification; ComponentLink2URL: http://www.ti.com/lit/ml/mpds361/mpds361.pdf
footprint PW16_N (TSOP, 16-Leads, Body 5x4.4mm, Pitch 0.65mm, IPC Medium Density)
footprint PW16_L (TSOP, 16-Leads, Body 5x4.4mm, Pitch 0.65mm, IPC High Density)
footprint PW16_M (TSOP, 16-Leads, Body 5x4.4mm, Pitch 0.65mm, IPC Low Density)
pins: 1 1B (in), 2 1A (in), 3 1R (out), 4 1DE (in), 5 2R (out), 6 2A (in), 7 2B (in), 8 GND (power), 9 2D (in), 10 2Y (hiz), 11 2Z (hiz), 12 2DE (in), 13 1Z (hiz), 14 1Y (hiz), 15 1D (in), 16 VCC (power)

## SN65C1168EPWRG4
designator U?
Dual Differential Driver and Receiver with +/-15-kV IEC ESD Protection, 2 TX / 2 RX, 5V, -40 to 85 degC, 16-Pin TSSOP (PW), Green (RoHS & no Sb/Br); PartNumber: SN65C1168EPWRG4; Manufacturer: Texas Instruments; SubFamily: RS-422; Drivers Per Package: 2; ICC(Max)(mA): 9; Supply Voltage(s)(V): 5; ESD(kV): 15; Rating: Catalog; DatasheetVersion: SLLS740A; PackageVersion: revG, Feb-2011; PackageReference: PW16; PackageDescription: 16-Pin Plastic Thin Small Outline Package 5 x 4.4 mm Body ,0.65 mm Pitch; Mounting Technology: Surface Mount; Eco-Plan: Green (RoHS & no Sb/Br); Receivers Per Package: 2; # of TX/RX: 2 TX / 2 RX; Footprint: MC34051; Code_JEDEC: MO-153; ComponentLink1Description: Datasheet; ComponentLink1URL: http://www.ti.com/general/docs/lit/getliterature.tsp?genericPartNumber=SN65C1168E&fileType=pdf; ComponentLink2Description: Package Specification; ComponentLink2URL: http://www.ti.com/lit/ml/mpds361/mpds361.pdf
footprint PW16_N (TSOP, 16-Leads, Body 5x4.4mm, Pitch 0.65mm, IPC Medium Density)
footprint PW16_L (TSOP, 16-Leads, Body 5x4.4mm, Pitch 0.65mm, IPC High Density)
footprint PW16_M (TSOP, 16-Leads, Body 5x4.4mm, Pitch 0.65mm, IPC Low Density)
pins: 1 1B (in), 2 1A (in), 3 1R (out), 4 1DE (in), 5 2R (out), 6 2A (in), 7 2B (in), 8 GND (power), 9 2D (in), 10 2Y (hiz), 11 2Z (hiz), 12 2DE (in), 13 1Z (hiz), 14 1Y (hiz), 15 1D (in), 16 VCC (power)

## SN65C1168ERGYR
designator U?
Dual Differential Driver and Receiver with +/-15-kV IEC ESD Protection, 2 TX / 2 RX, 5V, -40 to 85 degC, 16-Pin VQFN (RGY), Green (RoHS & no Sb/Br); PartNumber: SN65C1168ERGYR; Manufacturer: Texas Instruments; SubFamily: RS-422; Drivers Per Package: 2; ICC(Max)(mA): 9; Supply Voltage(s)(V): 5; ESD(kV): 15; Rating: Catalog; DatasheetVersion: SLLS740A; PackageVersion: revI, Jun-2011; PackageReference: RGY16-2550X2050TP; PackageDescription: 16-Leads Plastic Quad Flatpack No-Lead, 3.5 x 4 x 0.9 mm Body, 0.5 mm Pitch; Mounting Technology: Surface Mount; Eco-Plan: Green (RoHS & no Sb/Br); Receivers Per Package: 2; # of TX/RX: 2 TX / 2 RX; Footprint: MC34051; Code_JEDEC: MO-241-BA; ComponentLink1Description: Datasheet; ComponentLink1URL: http://www.ti.com/general/docs/lit/getliterature.tsp?genericPartNumber=SN65C1168E&fileType=pdf; ComponentLink2Description: Package Specification; ComponentLink2URL: http://www.ti.com/litv/pdf/mpqf115g
footprint RGY16-2550X2050TP (QFN, 16-Leads, Body 4x3.5mm, Pitch 0.5mm, Thermal Pad 2.55x2.05mm, TI Recommended)
pins: 1 1B (in), 2 1A (in), 3 1R (out), 4 1DE (in), 5 2R (out), 6 2A (in), 7 2B (in), 8 GND (power), 9 2D (in), 10 2Y (hiz), 11 2Z (hiz), 12 2DE (in), 13 1Z (hiz), 14 1Y (hiz), 15 1D (in), 16 VCC (power), 17 EP "Exposed Thermal Pad"

## SN65C1168ERGYRG4
designator U?
Dual Differential Driver and Receiver with +/-15-kV IEC ESD Protection, 2 TX / 2 RX, 5V, -40 to 85 degC, 16-Pin VQFN (RGY), Green (RoHS & no Sb/Br); PartNumber: SN65C1168ERGYRG4; Manufacturer: Texas Instruments; SubFamily: RS-422; Drivers Per Package: 2; ICC(Max)(mA): 9; Supply Voltage(s)(V): 5; ESD(kV): 15; Rating: Catalog; DatasheetVersion: SLLS740A; PackageVersion: revI, Jun-2011; PackageReference: RGY16-2550X2050TP; PackageDescription: 16-Leads Plastic Quad Flatpack No-Lead, 3.5 x 4 x 0.9 mm Body, 0.5 mm Pitch; Mounting Technology: Surface Mount; Eco-Plan: Green (RoHS & no Sb/Br); Receivers Per Package: 2; # of TX/RX: 2 TX / 2 RX; Footprint: MC34051; Code_JEDEC: MO-241-BA; ComponentLink1Description: Datasheet; ComponentLink1URL: http://www.ti.com/general/docs/lit/getliterature.tsp?genericPartNumber=SN65C1168E&fileType=pdf; ComponentLink2Description: Package Specification; ComponentLink2URL: http://www.ti.com/litv/pdf/mpqf115g
footprint RGY16-2550X2050TP (QFN, 16-Leads, Body 4x3.5mm, Pitch 0.5mm, Thermal Pad 2.55x2.05mm, TI Recommended)
pins: 1 1B (in), 2 1A (in), 3 1R (out), 4 1DE (in), 5 2R (out), 6 2A (in), 7 2B (in), 8 GND (power), 9 2D (in), 10 2Y (hiz), 11 2Z (hiz), 12 2DE (in), 13 1Z (hiz), 14 1Y (hiz), 15 1D (in), 16 VCC (power), 17 EP "Exposed Thermal Pad"

## SN65C1168N
designator U?
Dual Differential Driver and Receiver, 2 TX / 2 RX, 5V, -40 to 85 degC, 16-Pin PDIP (N), Pb-Free (RoHS); PartNumber: SN65C1168N; Manufacturer: Texas Instruments; SubFamily: RS-422; Drivers Per Package: 2; ICC(Max)(mA): 9; Supply Voltage(s)(V): 5; Isolated: No; Rating: Catalog; DatasheetVersion: SLLS159F; PackageVersion: revE, Dec-2002; PackageReference: N16; PackageDescription: 16-Pin Plastic Dual-In-Line Package, Row Spacing 7.62 mm, Pitch 2.54 mm; Mounting Technology: Through-hole; Eco-Plan: Pb-Free (RoHS); Receivers Per Package: 2; # of TX/RX: 2 TX / 2 RX; ESD(kV): 2; Footprint: MC34051; Code_JEDEC: MS-001*; ComponentLink1Description: Datasheet; ComponentLink1URL: http://www.ti.com/general/docs/lit/getliterature.tsp?genericPartNumber=SN65C1168&fileType=pdf; ComponentLink2Description: Package Specification; ComponentLink2URL: http://www.ti.com/lit/ml/mpdi002c/mpdi002c.pdf
footprint N16 (DIP, 16-Leads, Row Spacing 7.62mm, Pitch 2.54mm, Body 19.3x6.4mm)
pins: 1 1B (in), 2 1A (in), 3 1R (out), 4 1DE (in), 5 2R (out), 6 2A (in), 7 2B (in), 8 GND (power), 9 2D (in), 10 2Y (hiz), 11 2Z (hiz), 12 2DE (in), 13 1Z (hiz), 14 1Y (hiz), 15 1D (in), 16 VCC (power)

## SN65C1168NE4
designator U?
Dual Differential Driver and Receiver, 2 TX / 2 RX, 5V, -40 to 85 degC, 16-Pin PDIP (N), Pb-Free (RoHS); PartNumber: SN65C1168NE4; Manufacturer: Texas Instruments; SubFamily: RS-422; Drivers Per Package: 2; ICC(Max)(mA): 9; Supply Voltage(s)(V): 5; Isolated: No; Rating: Catalog; DatasheetVersion: SLLS159F; PackageVersion: revE, Dec-2002; PackageReference: N16; PackageDescription: 16-Pin Plastic Dual-In-Line Package, Row Spacing 7.62 mm, Pitch 2.54 mm; Mounting Technology: Through-hole; Eco-Plan: Pb-Free (RoHS); Receivers Per Package: 2; # of TX/RX: 2 TX / 2 RX; ESD(kV): 2; Footprint: MC34051; Code_JEDEC: MS-001*; ComponentLink1Description: Datasheet; ComponentLink1URL: http://www.ti.com/general/docs/lit/getliterature.tsp?genericPartNumber=SN65C1168&fileType=pdf; ComponentLink2Description: Package Specification; ComponentLink2URL: http://www.ti.com/lit/ml/mpdi002c/mpdi002c.pdf
footprint N16 (DIP, 16-Leads, Row Spacing 7.62mm, Pitch 2.54mm, Body 19.3x6.4mm)
pins: 1 1B (in), 2 1A (in), 3 1R (out), 4 1DE (in), 5 2R (out), 6 2A (in), 7 2B (in), 8 GND (power), 9 2D (in), 10 2Y (hiz), 11 2Z (hiz), 12 2DE (in), 13 1Z (hiz), 14 1Y (hiz), 15 1D (in), 16 VCC (power)

## SN65C1168NSR
designator U?
Dual Differential Driver and Receiver, 2 TX / 2 RX, 5V, -40 to 85 degC, 16-Pin SO(NS), Green (RoHS & no Sb/Br); PartNumber: SN65C1168NSR; Manufacturer: Texas Instruments; Eco-Plan: Pb-Free (RoHS); SubFamily: RS-422; Drivers Per Package: 2; ICC(Max)(mA): 9; Supply Voltage(s)(V): 5; Rating: Catalog; DatasheetVersion: SLLS159F; PackageVersion: revC, Mar-2003; PackageReference: NS16; PackageDescription: 16-Pin Plastic Small Outline Package, 10.2 x 5.3 mm, Pitch 1.27 mm Pitch; Mounting Technology: Surface Mount; Receivers Per Package: 2; # of TX/RX: 2 TX / 2 RX; ESD(kV): 2; Footprint: MC34051; Isolated: No; ComponentLink1Description: Datasheet; ComponentLink1URL: http://www.ti.com/general/docs/lit/getliterature.tsp?genericPartNumber=SN65C1168&fileType=pdf; ComponentLink2Description: Package Specification; ComponentLink2URL: http://www.ti.com/litv/pdf/msop002a
footprint NS16_N (SOP, 16-Leads, Body 10.2x5.3mm, Pitch 1.27mm, IPC Medium Density)
footprint NS16_L (SOP, 16-Leads, Body 10.2x5.3mm, Pitch 1.27mm, IPC High Density)
footprint NS16_M (SOP, 16-Leads, Body 10.2x5.3mm, Pitch 1.27mm, IPC Low Density)
pins: 1 1B (in), 2 1A (in), 3 1R (out), 4 1DE (in), 5 2R (out), 6 2A (in), 7 2B (in), 8 GND (power), 9 2D (in), 10 2Y (hiz), 11 2Z (hiz), 12 2DE (in), 13 1Z (hiz), 14 1Y (hiz), 15 1D (in), 16 VCC (power)

## SN65C1168NSRG4
designator U?
Dual Differential Driver and Receiver, 2 TX / 2 RX, 5V, -40 to 85 degC, 16-Pin SO (NS), Pb-Free (RoHS); PartNumber: SN65C1168NSRG4; Manufacturer: Texas Instruments; SubFamily: RS-422; Drivers Per Package: 2; ICC(Max)(mA): 9; Supply Voltage(s)(V): 5; Isolated: No; Rating: Catalog; DatasheetVersion: SLLS159F; PackageVersion: revC, Mar-2003; PackageReference: NS16; PackageDescription: 16-Pin Plastic Small Outline Package, 10.2 x 5.3 mm, Pitch 1.27 mm Pitch; Mounting Technology: Surface Mount; Eco-Plan: Pb-Free (RoHS); Receivers Per Package: 2; # of TX/RX: 2 TX / 2 RX; ESD(kV): 2; Footprint: MC34051; ComponentLink1Description: Datasheet; ComponentLink1URL: http://www.ti.com/general/docs/lit/getliterature.tsp?genericPartNumber=SN65C1168&fileType=pdf; ComponentLink2Description: Package Specification; ComponentLink2URL: http://www.ti.com/litv/pdf/msop002a
footprint NS16_N (SOP, 16-Leads, Body 10.2x5.3mm, Pitch 1.27mm, IPC Medium Density)
footprint NS16_L (SOP, 16-Leads, Body 10.2x5.3mm, Pitch 1.27mm, IPC High Density)
footprint NS16_M (SOP, 16-Leads, Body 10.2x5.3mm, Pitch 1.27mm, IPC Low Density)
pins: 1 1B (in), 2 1A (in), 3 1R (out), 4 1DE (in), 5 2R (out), 6 2A (in), 7 2B (in), 8 GND (power), 9 2D (in), 10 2Y (hiz), 11 2Z (hiz), 12 2DE (in), 13 1Z (hiz), 14 1Y (hiz), 15 1D (in), 16 VCC (power)

## SN65C1168PW
designator U?
Dual Differential Driver and Receiver, 2 TX / 2 RX, 5V, -40 to 85 degC, 16-Pin TSSOP (PW), Pb-Free (RoHS); PartNumber: SN65C1168PW; Manufacturer: Texas Instruments; SubFamily: RS-422; Drivers Per Package: 2; ICC(Max)(mA): 9; Supply Voltage(s)(V): 5; Isolated: No; Rating: Catalog; DatasheetVersion: SLLS159F; PackageVersion: revG, Feb-2011; PackageReference: PW16; PackageDescription: 16-Pin Plastic Thin Small Outline Package 5 x 4.4 mm Body ,0.65 mm Pitch; Mounting Technology: Surface Mount; Eco-Plan: Pb-Free (RoHS); Receivers Per Package: 2; # of TX/RX: 2 TX / 2 RX; ESD(kV): 2; Footprint: MC34051; Code_JEDEC: MO-153; ComponentLink1Description: Datasheet; ComponentLink1URL: http://www.ti.com/general/docs/lit/getliterature.tsp?genericPartNumber=SN65C1168&fileType=pdf; ComponentLink2Description: Package Specification; ComponentLink2URL: http://www.ti.com/lit/ml/mpds361/mpds361.pdf
footprint PW16_N (TSOP, 16-Leads, Body 5x4.4mm, Pitch 0.65mm, IPC Medium Density)
footprint PW16_L (TSOP, 16-Leads, Body 5x4.4mm, Pitch 0.65mm, IPC High Density)
footprint PW16_M (TSOP, 16-Leads, Body 5x4.4mm, Pitch 0.65mm, IPC Low Density)
pins: 1 1B (in), 2 1A (in), 3 1R (out), 4 1DE (in), 5 2R (out), 6 2A (in), 7 2B (in), 8 GND (power), 9 2D (in), 10 2Y (hiz), 11 2Z (hiz), 12 2DE (in), 13 1Z (hiz), 14 1Y (hiz), 15 1D (in), 16 VCC (power)